# EAGLE library part FAN5362 (library ON Semiconductor)
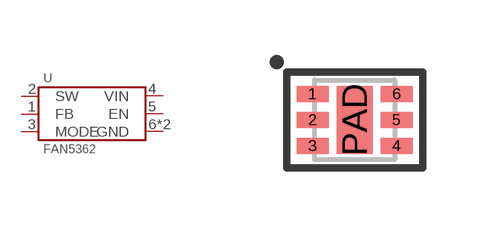
[diagram p1: symbol with the pads of UDFN-6-2X2; footprint UDFN-6-2X2]

Designator prefix U

## FAN5362UMP33X  [UDFN-6-2X2]
1  FB
2  SW
3  MODE
4  VIN
5  EN
6  GND
PAD  GND

## Footprint UDFN-6-2X2 (pad centres in mm)
smd 0.8 x 0.4: 1 -1.05,0.65; 2 -1.05,0; 3 -1.05,-0.65; 4 1.05,-0.65; 5 1.05,0; 6 1.05,0.65
smd 0.9 x 1.7: PAD 0,0